# EAGLE library part AVRISPMKII (library adam - mechanical)
6 pin connector for ISP with ATMEL MCUs. 6-CONN Developed by Craig Moates (craig at moates dot net). Library by David Blundell (blundar at gmail dot com). 10-CONN developed by Adam Brown, reworked to match the CCE10G card edge connector. Often, even a 6 pin header is really inconvenient for board layout and/or production. This SMD-only header is our de-facto standard for using an edge connector for programming with the help of a 6pin/10pin to edge card adapter. Note the pinning is different for the 10-CONN version.
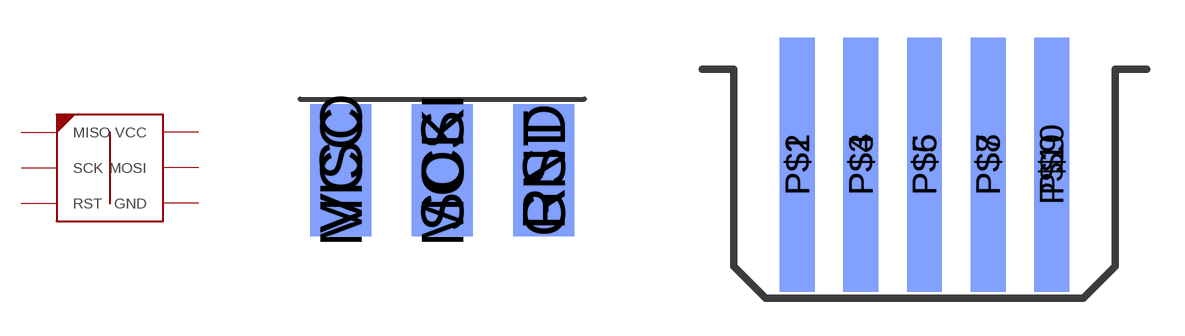
[diagram p0: symbol with the pads of 6PAD_ISP; footprints 6PAD_ISP, CCE10G-ND]

Designator prefix -

## AVRISPMKII6-CARDEDGE  [6PAD_ISP]
GND  GND
MISO  MISO
MOSI  MOSI
RST  RST
SCK  SCK
VCC  VCC

## AVRISPMKII10-CARDEDGE  [CCE10G-ND]
P$1  MISO
P$2  VCC
P$3  SCK
P$4  MOSI
P$5  RST
P$6  GND

## Footprint 6PAD_ISP (pad centres in mm)
smd 1.524 x 3.302 bottom: GND 2.54,0; MOSI 0,0; VCC -2.54,0
smd 1.524 x 3.302: MISO -2.54,0; RST 2.54,0; SCK 0,0

## Footprint CCE10G-ND (pad centres in mm)
Card edge connector: 10 pin in 2 rows, IDE-style clamping wire connection, digikey: CCE10G-ND, $3.54
smd 1.397 x 10.16: P$1 -8.89,1.27; P$3 -6.35,1.27; P$5 -3.81,1.27; P$7 -1.27,1.27; P$9 1.27,1.27
smd 1.397 x 10.16 bottom: P$2 -8.89,1.27; P$4 -6.35,1.27; P$6 -3.81,1.27; P$8 -1.27,1.27; P$10 1.27,1.27